# Altium footprint library mems.PcbLib: 9 footprints
Each footprint in its own frame and in the unit in brackets; x right, y up, seen from the top. Pads: shape width x height; smd on the part's side, far side on the other; paste and mask are expansions set on the pad; w line width, h text height; cw(c..) or ccw(c..) is an arc to the next point about the centre after c.
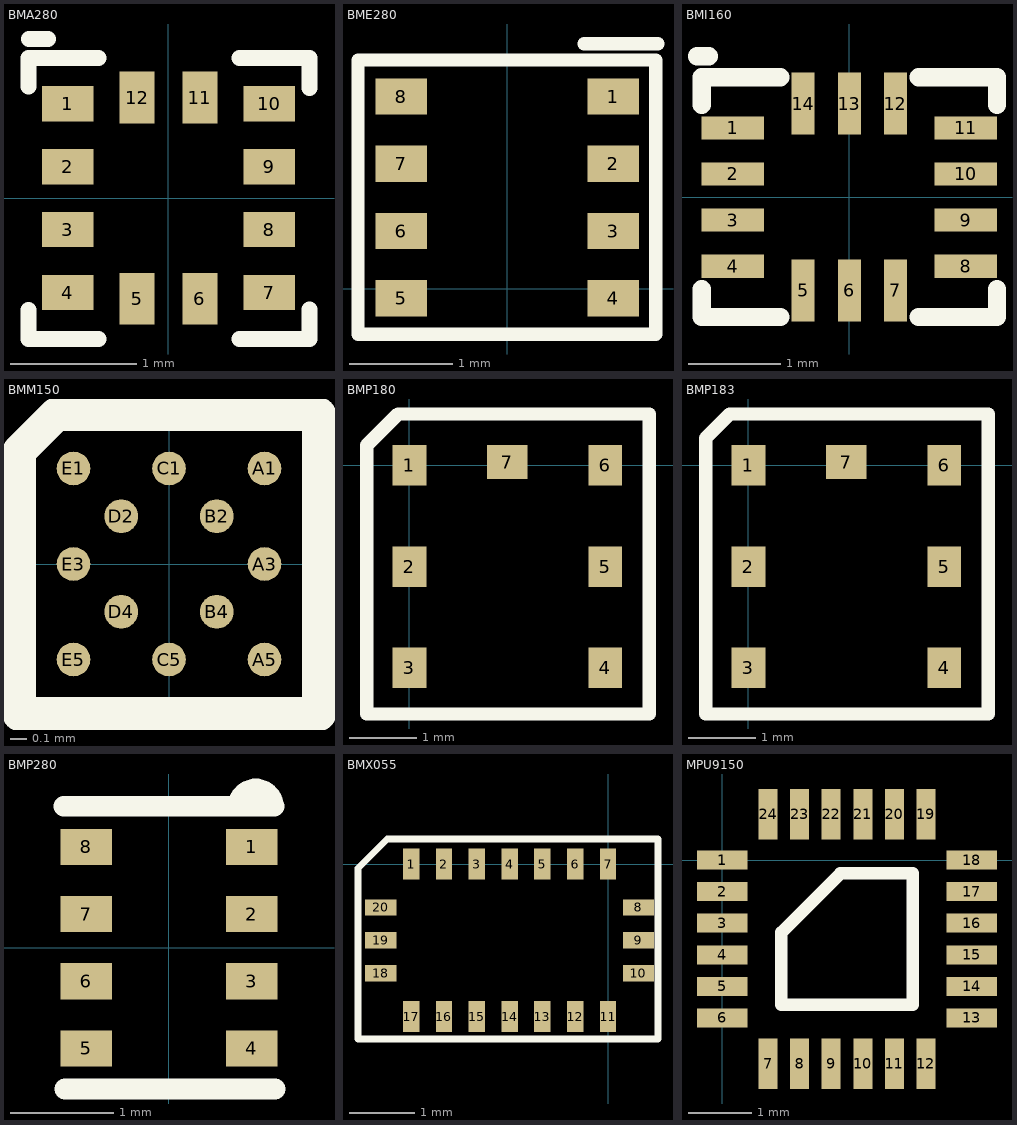
[diagram p0: the footprints below, top view; thin cyan lines are the x and y axes]

## BMA280 [mm]
pads (12):
  rect 0.41x0.28 smd: 1(-0.8,0.75) 2(-0.8,0.25) 3(-0.8,-0.25) 4(-0.8,-0.75) 7(0.8,-0.75) 8(0.8,-0.25) 9(0.8,0.25) 10(0.8,0.75)
  rect 0.28x0.41 smd: 5(-0.25,-0.8) 6(0.25,-0.8) 11(0.25,0.8) 12(-0.25,0.8)
Top Overlay:
  lines w0.127: -1.113,-0.89 -1.113,-1.119 -0.554,-1.119 ; -1.113,0.887 -1.113,1.115 -0.554,1.115 ; -1.107,1.265 -0.958,1.265 ; 0.563,-1.119 1.122,-1.119 1.122,-0.884 ; 0.563,1.115 1.122,1.115 1.122,0.877

## BME280 [mm]
pads (8):
  rect 0.5x0.35 smd: 1(1.025,1.855) 2(1.025,1.205) 3(1.025,0.555) 4(1.025,-0.095) 5(-1.025,-0.095) 6(-1.025,0.555) 7(-1.025,1.205) 8(-1.025,1.855)
Top Overlay:
  lines w0.127: 0.741,2.366 1.456,2.366 ; -1.443,-0.442 1.435,-0.442 1.435,2.209 -1.443,2.209 -1.443,-0.442

## BMI160 [mm]
pads (14):
  rect 0.675x0.25 smd: 1(-1.262,0.75) 2(-1.262,0.25) 3(-1.262,-0.25) 4(-1.262,-0.75) 8(1.262,-0.75) 9(1.262,-0.25) 10(1.262,0.25) 11(1.262,0.75)
  rect 0.25x0.675 smd: 5(-0.5,-1.012) 6(0,-1.012) 7(0.5,-1.012) 12(0.5,1.012) 13(0,1.012) 14(-0.5,1.012)
Top Overlay:
  lines w0.2: -1.651,1.524 -1.524,1.524 ; -1.6,-1.3 -0.75,-1.3 ; -1.6,-1.282 -1.6,-1 ; -1.6,1 -1.6,1.3 -0.75,1.3 ; 0.75,-1.3 1.6,-1.3 1.6,-1 ; 0.75,1.3 1.6,1.3 1.6,1

## BMM150 [mm]
pads (12):
  round 0.2 smd: A1(0.566,0.566) A3(0.566,0) A5(0.566,-0.566) B2(0.283,0.283) B4(0.283,-0.283) C1(0,0.566) C5(0,-0.566) D2(-0.283,0.283) D4(-0.283,-0.283) E1(-0.566,0.566) E3(-0.566,0) E5(-0.566,-0.566)
Top Overlay:
  lines w0.2: -0.889,-0.889 0.889,-0.889 0.889,0.889 -0.667,0.889 -0.889,0.667 -0.889,-0.889

## BMP180 [mm]
pads (7):
  rect 0.5x0.6 smd: 1(0,0) 2(0,-1.5) 3(0,-3) 4(2.9,-3) 5(2.9,-1.5) 6(2.9,0)
  rect 0.6x0.5 smd: 7(1.45,0.05)
Top Overlay:
  lines w0.2: 3.556,-2.156 3.556,-1.397 ; 3.556,-2.116 3.556,-3.683 -0.635,-3.683 -0.635,0.296 -0.169,0.762 3.556,0.762 3.556,-1.524

## BMP183 [mm]
pads (7):
  rect 0.5x0.6 smd: 1(0,0) 2(0,-1.5) 3(0,-3) 4(2.9,-3) 5(2.9,-1.5) 6(2.9,0)
  rect 0.6x0.5 smd: 7(1.45,0.05)
Top Overlay:
  lines w0.2: 3.556,-2.156 3.556,-1.397 ; 3.556,-2.116 3.556,-3.683 -0.635,-3.683 -0.635,0.402 -0.275,0.762 3.556,0.762 3.556,-1.524

## BMP280 [mm]
pads (8):
  rect 0.5x0.35 smd: 1(0.8,0.975) 2(0.8,0.325) 3(0.8,-0.325) 4(0.8,-0.975) 5(-0.8,-0.975) 6(-0.8,-0.325) 7(-0.8,0.325) 8(-0.8,0.975)
Top Overlay:
  lines w0.2: -1.016,1.369 0.162,1.369 ; -1.006,-1.367 1.026,-1.367 ; -0.162,1.369 1.016,1.369 ; 0.67,1.382 cw(c0.84,1.365) 1.01,1.382

## BMX055 [mm]
pads (20):
  rect 0.25x0.475 smd: 1(-3,0) 2(-2.5,0) 3(-2,0) 4(-1.5,0) 5(-1,0) 6(-0.5,0) 7(0,0) 11(0,-2.325) 12(-0.5,-2.325) 13(-1,-2.325) 14(-1.5,-2.325) 15(-2,-2.325) 16(-2.5,-2.325) 17(-3,-2.325)
  rect 0.475x0.25 smd: 8(0.463,-0.663) 9(0.463,-1.163) 10(0.463,-1.663) 18(-3.463,-1.663) 19(-3.463,-1.163) 20(-3.463,-0.663)
Top Overlay:
  lines w0.1: -3.81,-2.667 -3.81,-0.066 -3.363,0.381 0.762,0.381 0.762,-2.667 -3.81,-2.667

## MPU9150 [mm]
pads (24):
  rect 0.8x0.3 smd: 1(0,0) 2(0,-0.5) 3(0,-1) 4(0,-1.5) 5(0,-2) 6(0,-2.5) 13(3.95,-2.5) 14(3.95,-2) 15(3.95,-1.5) 16(3.95,-1) 17(3.95,-0.5) 18(3.95,0)
  rect 0.3x0.8 smd: 7(0.725,-3.225) 8(1.225,-3.225) 9(1.725,-3.225) 10(2.225,-3.225) 11(2.725,-3.225) 12(3.225,-3.225) 19(3.225,0.725) 20(2.725,0.725) 21(2.225,0.725) 22(1.725,0.725) 23(1.225,0.725) 24(0.725,0.725)
Top Overlay:
  lines w0.2: 0.935,-2.29 0.935,-1.145 1.87,-0.21 3.015,-0.21 3.015,-2.29 0.935,-2.29